# EAGLE library part CON2X5 (library SW_Connectors)
Connector Header Through Hole 10 position 0.079" (2.00mm)
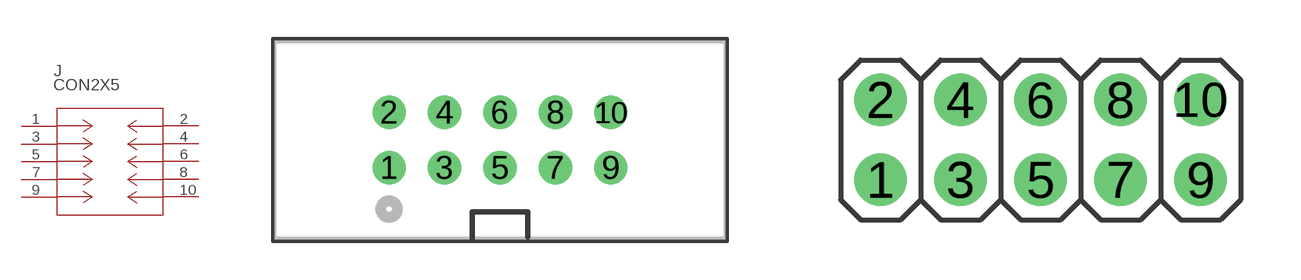
[diagram p7: symbol with the pads of CONN10_302-S101_OST; footprints CONN10_302-S101_OST, 2X5_2MM]

Designator prefix J

## CON2X5 (CATEGORY: Connector; DESCRIPTION: CONN HEADER VERT 10POS 2.54MM; MFGS: On Shore Technology Inc; MPNS: 302-S101; PACKAGE: CON2x5)  [CONN10_302-S101_OST]
1  1  pas
2  2  pas
3  3  pas
4  4  pas
5  5  pas
6  6  pas
7  7  pas
8  8  pas
9  9  pas
10  10  pas

## CON2X52MM (CATEGORY: Connector; DESCRIPTION: Connector Header Through Hole 10 position 0.079" (2.00mm); MFGS: Adam Tech; MPNS: 2PH2-10-UA; PACKAGE: TH; PART_NUMBER: Male Header 2x5 2mm Pitch)  [2X5_2MM]
Pads as for CONN10_302-S101_OST

## Footprint CONN10_302-S101_OST (pad centres in mm)
drill 1.016 pad 1.524: 1 0,0; 2 0,2.54; 3 2.54,0; 4 2.54,2.54; 5 5.08,0; 6 5.08,2.54; 7 7.62,0; 8 7.62,2.54; 9 10.16,0; 10 10.16,2.54

## Footprint 2X5_2MM (pad centres in mm)
drill 0.8: 1 0,0; 2 0,2; 3 2,0; 4 2,2; 5 4,0; 6 4,2; 7 6,0; 8 6,2; 9 8,0; 10 8,2